# Altium footprint library PcbLib.PcbLib: 12 footprints
Each footprint in its own frame and in the unit in brackets; x right, y up, seen from the top. Pads: shape width x height; smd on the part's side, far side on the other; paste and mask are expansions set on the pad; w line width, h text height; cw(c..) or ccw(c..) is an arc to the next point about the centre after c.
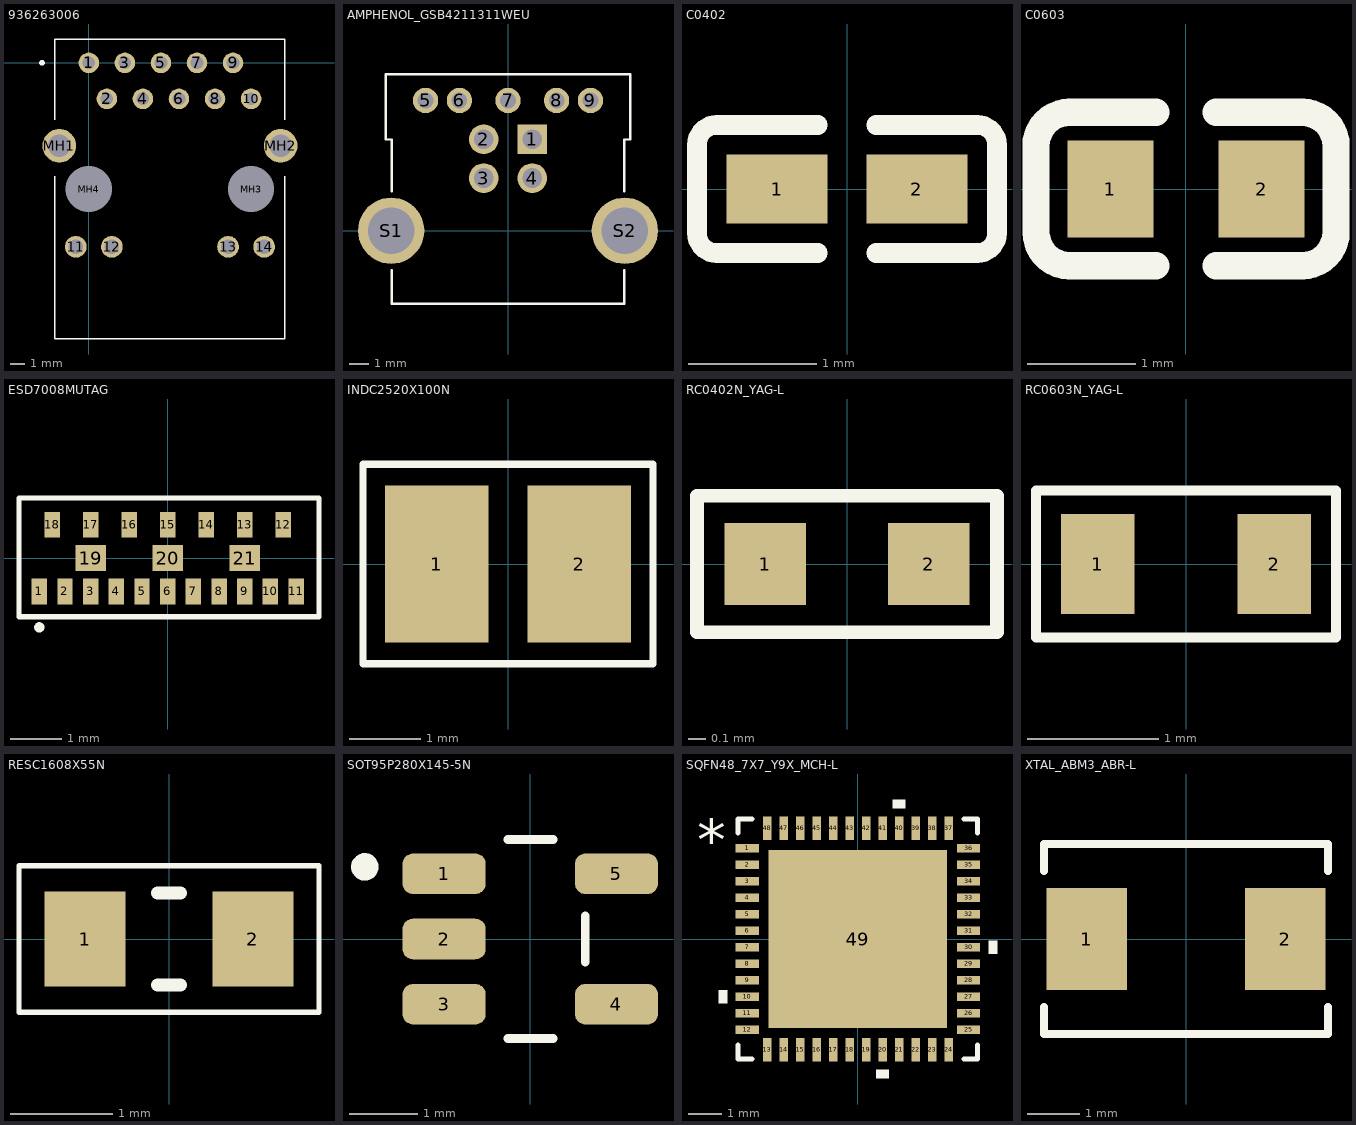
[diagram p0: the footprints below, top view; thin cyan lines are the x and y axes]

## 936263006 [mm]
pads (18):
  round 1.446 hole 0.89: 1(0,0) 2(1.27,-2.54) 3(2.54,0) 4(3.81,-2.54) 5(5.08,0) 6(6.35,-2.54) 7(7.62,0) 8(8.89,-2.54) 9(10.16,0) 10(11.43,-2.54)
  round 1.53 hole 1.02: 11(-0.92,-12.96) 12(1.62,-12.96) 13(9.81,-12.96) 14(12.35,-12.96)
  round 2.37 hole 1.58: MH1(-2.08,-5.84) MH2(13.51,-5.84)
  round 1.63 hole 3.26 unplated: MH3(11.43,-8.89) MH4(0,-8.89)
Top Overlay:
  lines w0.1: -2.385,-8 -2.385,-19.456 13.815,-19.456 13.815,-8 ; -2.385,-4 -2.385,1.68 13.815,1.68 13.815,-4
  lines w0.2: -3.4,0 cw(c-3.3,0) -3.2,0 cw(c-3.3,0) -3.4,0
3D body "93626-3006.stp": height 15.2, standoff -3.3, extent -3.299,-19.702 14.859,1.668

## AMPHENOL_GSB4211311WEU [mm]
height 13.1
pads (11):
  rect 1.53x1.53 / inner round 1.53 / far side rect 1.53x1.53 hole 1.02: 1(1.25,4.71)
  round 1.53 hole 1.02: 2(-1.25,4.71) 3(-1.25,2.71) 4(1.25,2.71)
  round 1.308 hole 0.8: 5(-4.25,6.71) 6(-2.5,6.71) 7(0,6.71) 8(2.5,6.71) 9(4.25,6.71)
  round 3.416 hole 2.4: S1(-6.02,0) S2(6.02,0)
Top Overlay:
  lines w0.127: -6,-2.028 -6,-3.75 6,-3.75 6,-2.028 ; -6,2.028 -6,4.7 -6.3,4.7 -6.3,8.05 6.3,8.05 6.3,4.7 6,4.7 6,2.028
3D body "step_temp.STEP": height 13.11, standoff -4.1, extent -6.3,-10.295 6.3,8.055

## C0402 [mm]
pads (2):
  rect 0.79x0.54 smd paste+0 mask+0.051: 1(-0.545,0) 2(0.545,0)
Top Overlay:
  lines w0.152: -0.226,-0.499 -1.016,-0.499 cw(c-1.016,-0.346) -1.169,-0.346 -1.169,0.346 cw(c-1.016,0.346) -1.016,0.499 -0.226,0.499 ; 0.226,-0.499 1.016,-0.499 ccw(c1.016,-0.346) 1.169,-0.346 1.169,0.346 ccw(c1.016,0.346) 1.016,0.499 0.226,0.499
Mechanical 15:
  lines w0.003: 0.317,0.127 0.318,0.127
3D body "capacitor_rnd1500402b101k250.stp": height 0.5, standoff 0, extent -0.5,-0.254 0.5,0.246

## C0603 [mm]
pads (2):
  rect 0.8x0.9 smd paste+0 mask+0.051: 1(-0.7,0) 2(0.7,0)
Top Overlay:
  lines w0.254: -1.08,-0.71 -0.28,-0.71 ; -1.08,0.71 -0.28,0.71 ; -1.08,-0.71 cw(c-1.08,-0.4) -1.39,-0.4 -1.39,0.4 cw(c-1.08,0.4) -1.08,0.71 ; 0.28,-0.71 1.08,-0.71 ccw(c1.08,-0.4) 1.39,-0.4 1.39,0.4 ccw(c1.08,0.4) 1.08,0.71 0.28,0.71
Mechanical 15:
  lines w0.003: 0.317,0.127 0.318,0.127
3D body "capacitor_rnd_1500603b221k500.stp": height 0.8, standoff 0, extent -0.8,-0.394 0.8,0.406

## ESD7008MUTAG [mm]
pads (21):
  rect 0.3x0.5 smd: 1(-2.5,-0.65) 2(-2,-0.65) 3(-1.5,-0.65) 4(-1,-0.65) 5(-0.5,-0.65) 6(0,-0.65) 7(0.5,-0.65) 8(1,-0.65) 9(1.5,-0.65) 10(2,-0.65) 11(2.5,-0.65) 12(2.25,0.65) 13(1.5,0.65) 14(0.75,0.65) 15(0,0.65) 16(-0.75,0.65) 17(-1.5,0.65) 18(-2.25,0.65)
  rect 0.6x0.5 smd: 19(-1.5,0) 20(0,0) 21(1.5,0)
Top Overlay:
  lines w0.1: -2.896,-1.143 -2.896,1.168 2.946,1.168 2.946,-1.143 -2.896,-1.143 ; -2.5,-1.4 ccw(c-2.5,-1.35) -2.5,-1.3 ccw(c-2.5,-1.35) -2.5,-1.4
3D body "ESD7008MUTAG.stp": height 0.51, standoff -0.01, extent -2.75,-0.762 2.75,0.758

## INDC2520X100N [mm]
pads (2):
  rect 1.45x2.2 smd: 1(-1,0) 2(1,0)
Top Overlay:
  lines w0.1: -2.032,-1.397 2.032,-1.397 2.032,1.397 -2.032,1.397 -2.032,-1.397
3D body "AOTA-B252010S4R7MT.stp": height 1, standoff 0, extent -1.25,-1 1.25,1

## RC0402N_YAG-L [mil]
pads (2):
  rect 18x18 smd paste+0 mask+0: 1(-18,0) 2(18,0)
Top Overlay:
  lines w3: -33,-15 33,-15 33,15 -33,15 -33,-15
3D body "RT0402BRD071KL.STEP": height 13.78, standoff 0, extent -19.68,-9.84 19.68,9.84

## RC0603N_YAG-L [mil]
pads (2):
  rect 22x30 smd paste+0 mask+0: 1(-26.5,0) 2(26.5,0)
Top Overlay:
  lines w3: -45,-22 45,-22 45,22 -45,22 -45,-22
3D body "RC0603N_YAG.step": height 27.99, standoff 0, extent -31.5,-15.98 31.5,15.98

## RESC1608X55N [mm]
pads (2):
  rect 0.79x0.93 smd paste+0 mask+0.102: 1(-0.82,0) 2(0.82,0)
Top Overlay:
  lines w0.05: -1.465,-0.715 1.465,-0.715 1.465,0.715 -1.465,0.715 -1.465,-0.715
  lines w0.127: -0.11,-0.45 0.11,-0.45 ; -0.11,0.45 0.11,0.45
3D body "step_temp.STEP": height 0.55, standoff 0, extent -0.8,-0.4 0.8,0.4

## SOT95P280X145-5N [mm]
pads (5):
  rrect50% 1.21x0.59 smd: 1(-1.255,0.95) 2(-1.255,0) 3(-1.255,-0.95) 4(1.255,-0.95) 5(1.255,0.95)
Top Overlay:
  circle w0.2: c-2.41,1.05 r0.1
  lines w0.127: -0.33,-1.45 0.33,-1.45 ; -0.33,1.45 0.33,1.45 ; 0.8,-0.335 0.8,0.335
3D body "step_temp.STEP": height 1.45, standoff 0, extent -1.4,-1.45 1.4,1.45

## SQFN48_7X7_Y9X_MCH-L [mil]
pads (49):
  rect 28x10 smd paste+0 mask+0: 1(-132,108.27) 2(-132,88.58) 3(-132,68.9) 4(-132,49.21) 5(-132,29.53) 6(-132,9.84) 7(-132,-9.84) 8(-132,-29.53) 9(-132,-49.21) 10(-132,-68.9) 11(-132,-88.58) 12(-132,-108.27) 25(132,-108.27) 26(132,-88.58) 27(132,-68.9) 28(132,-49.21) 29(132,-29.53) 30(132,-9.84) 31(132,9.84) 32(132,29.53) 33(132,49.21) 34(132,68.9) 35(132,88.58) 36(132,108.27)
  rect 10x28 smd paste+0 mask+0: 13(-108.27,-132) 14(-88.58,-132) 15(-68.9,-132) 16(-49.21,-132) 17(-29.53,-132) 18(-9.84,-132) 19(9.84,-132) 20(29.53,-132) 21(49.21,-132) 22(68.9,-132) 23(88.58,-132) 24(108.27,-132) 37(108.27,132) 38(88.58,132) 39(68.9,132) 40(49.21,132) 41(29.53,132) 42(9.84,132) 43(-9.84,132) 44(-29.53,132) 45(-49.21,132) 46(-68.9,132) 47(-88.58,132) 48(-108.27,132)
  rect 213x213 smd paste-106.5 mask+0: 49(0,0)
Top Overlay:
  region: -156,-61.4 -166,-61.4 -166,-76.4 -156,-76.4
  region: 37.03,-156 22.03,-156 22.03,-166 37.03,-166
  region: 156,-2.34 166,-2.34 166,-17.34 156,-17.34
  region: 56.71,156 41.71,156 41.71,166 56.71,166
  lines w6: -143,-126.37 -143,-143 -126.37,-143 ; -143,126.37 -143,143 -126.37,143 ; 126.37,-143 143,-143 143,-126.37 ; 126.37,143 143,143 143,126.37
  text "*" at -192,93 h50
Top Paste:
  region: -57.19,102.56 -102.56,102.56 -102.56,57.19 -57.19,57.19
  region: -57.19,49.31 -102.56,49.31 -102.56,3.94 -57.19,3.94
  region: -57.19,-3.94 -102.56,-3.94 -102.56,-49.31 -57.19,-49.31
  region: -57.19,-57.19 -102.56,-57.19 -102.56,-102.56 -57.19,-102.56
  region: -3.94,102.56 -49.31,102.56 -49.31,57.19 -3.94,57.19
  region: -3.94,49.31 -49.31,49.31 -49.31,3.94 -3.94,3.94
  region: -3.94,-3.94 -49.31,-3.94 -49.31,-49.31 -3.94,-49.31
  region: -3.94,-57.19 -49.31,-57.19 -49.31,-102.56 -3.94,-102.56
  region: 49.31,102.56 3.94,102.56 3.94,57.19 49.31,57.19
  region: 49.31,49.31 3.94,49.31 3.94,3.94 49.31,3.94
  region: 49.31,-3.94 3.94,-3.94 3.94,-49.31 49.31,-49.31
  region: 49.31,-57.19 3.94,-57.19 3.94,-102.56 49.31,-102.56
  region: 102.56,102.56 57.19,102.56 57.19,57.19 102.56,57.19
  region: 102.56,49.31 57.19,49.31 57.19,3.94 102.56,3.94
  region: 102.56,-3.94 57.19,-3.94 57.19,-49.31 102.56,-49.31
  region: 102.56,-57.19 57.19,-57.19 57.19,-102.56 102.56,-102.56
3D body "SQFN48_7X7_Y9X_MCH.step": height 39.09, standoff 0, extent -137.99,-137.99 137.99,137.99

## XTAL_ABM3_ABR-L [mil]
pads (2):
  rect 61x77 smd paste+0 mask+0: 1(-75,0) 2(75,0)
Top Overlay:
  lines w6: -107.5,-51.45 -107.5,-72 107.5,-72 107.5,-51.45 ; -107.5,51.45 -107.5,72 107.5,72 107.5,51.45
3D body "XTAL_ABM3_ABR.step": height 50.98, standoff 0, extent -112.76,-82.24 112.76,82.24